# EAGLE library part TEMPLATE_FEATHER_M0/32U4 (library voltera_community_lib)
Feather Template (Compatible with Argon)
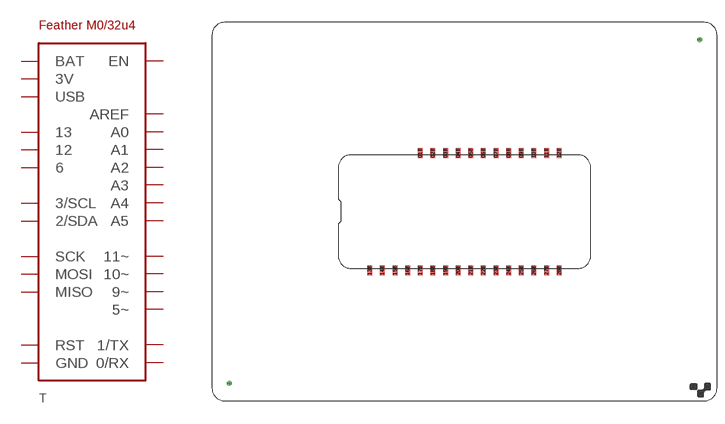
[diagram p8: symbol with the pads of FEATHER; footprint FEATHER]

Designator prefix T

## TEMPLATE_FEATHER_M0/32U4  [FEATHER]
01B  BAT
01T  BAT
02B  EN
02T  EN
03B  USB
03T  USB
04B  13
04T  13
05B  12
05T  12
06B  11~
06T  11~
07B  10~
07T  10~
08B  9~
08T  9~
09B  6
09T  6
10B  5~
10T  5~
11B  3/SCL
11T  3/SCL
12B  2/SDA
12T  2/SDA
13B  RST
13T  RST
14B  3V
14T  3V
15B  AREF
15T  AREF
16B  GND
16T  GND
17B  A0
17T  A0
18B  A1
18T  A1
19B  A2
19T  A2
20B  A3
20T  A3
21B  A4
21T  A4
22B  A5
22T  A5
23B  SCK
23T  SCK
24B  MOSI
24T  MOSI
25B  MISO
25T  MISO
26B  0/RX
26T  0/RX
27B  1/TX
27T  1/TX
28B  GND
28T  GND

## Footprint FEATHER (pad centres in mm)
smd 1.016 x 2.032 bottom: 01B 41.91,49.93; 02B 44.45,49.93; 03B 46.99,49.93; 04B 49.53,49.93; 05B 52.07,49.93; 06B 54.61,49.93; 07B 57.15,49.93; 08B 59.69,49.93; 09B 62.23,49.93; 10B 64.77,49.93; 11B 67.31,49.93; 12B 69.85,49.93; 13B 31.75,26.289; 14B 34.29,26.289; 15B 36.83,26.289; 16B 39.37,26.289; 17B 41.91,26.289; 18B 44.45,26.289; 19B 46.99,26.289; 20B 49.53,26.289; 21B 52.07,26.289; 22B 54.61,26.289; 23B 57.15,26.289; 24B 59.69,26.289; 25B 62.23,26.289; 26B 64.77,26.289; 27B 67.31,26.289; 28B 69.85,26.289
smd 1.016 x 2.032: 01T 41.91,49.93; 02T 44.45,49.93; 03T 46.99,49.93; 04T 49.53,49.93; 05T 52.07,49.93; 06T 54.61,49.93; 07T 57.15,49.93; 08T 59.69,49.93; 09T 62.23,49.93; 10T 64.77,49.93; 11T 67.31,49.93; 12T 69.85,49.93; 13T 31.75,26.289; 14T 34.29,26.289; 15T 36.83,26.289; 16T 39.37,26.289; 17T 41.91,26.289; 18T 44.45,26.289; 19T 46.99,26.289; 20T 49.53,26.289; 21T 52.07,26.289; 22T 54.61,26.289; 23T 57.15,26.289; 24T 59.69,26.289; 25T 62.23,26.289; 26T 64.77,26.289; 27T 67.31,26.289; 28T 69.85,26.289
drill 0.3 pad 1: P$1 3.5,3.5; P$2 98.1,72.7